# Altium footprint library 轻触按键.PcbLib: 22 footprints (part 2 of 2)
Each footprint in its own frame and in the unit in brackets; x right, y up, seen from the top. Pads: shape width x height; smd on the part's side, far side on the other; paste and mask are expansions set on the pad; w line width, h text height; cw(c..) or ccw(c..) is an arc to the next point about the centre after c.
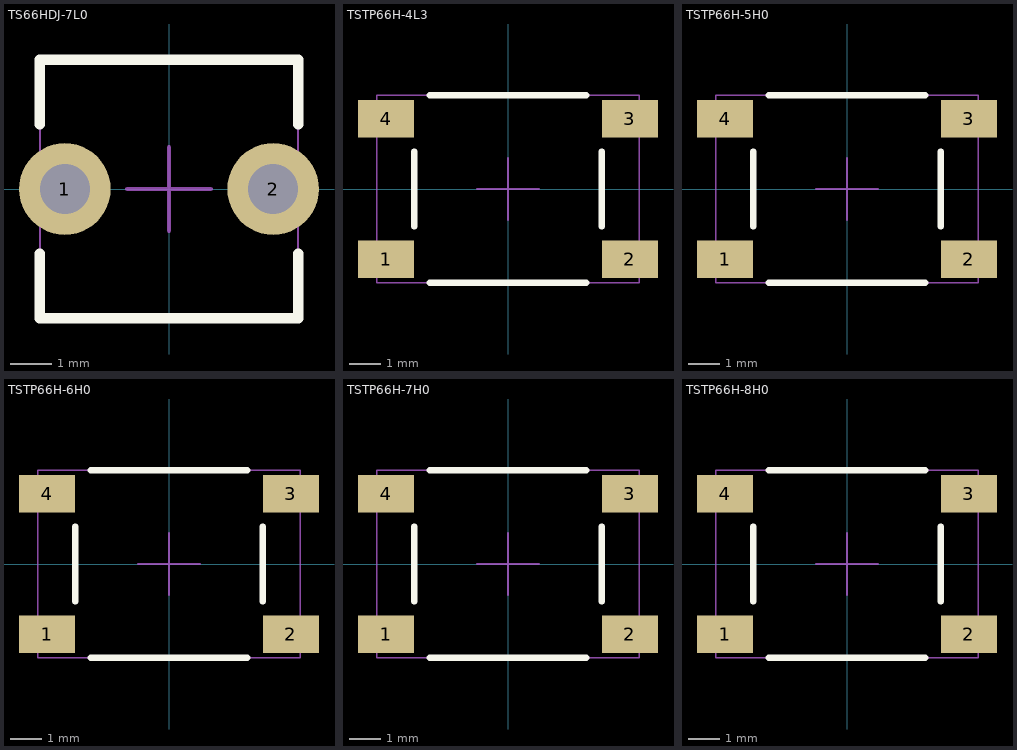
[diagram p1: the footprints below, top view; thin cyan lines are the x and y axes]

## TS66HDJ-7L0 [mm] "6*6短两脚轻触按键"
height 7
pads (2):
  round 2.2 hole 1.2 unplated: 1(-2.5,0) 2(2.5,0)
Top Overlay:
  lines w0.25: -3.1,-1.55 -3.1,-3.1 3.1,-3.1 3.1,-1.55 ; -3.1,1.55 -3.1,3.1 3.1,3.1 3.1,1.55
Mechanical 13:
  lines w0.05: -3.1,-3.1 -3.1,3.1 3.1,3.1 3.1,-3.1 -3.1,-3.1
Mechanical 15:
  lines w0.1: -1,0 1,0 ; 0,-1 0,1
3D body: height 7, standoff -3.7, extent -3.1,-3.1 3.1,3.1

## TSTP66H-4L3 [mm] "贴片6x6轻触按键"
height 4.3
pads (4):
  rect 1.8x1.2 smd: 1(-3.9,-2.25) 2(3.9,-2.25) 3(3.9,2.25) 4(-3.9,2.25)
Top Overlay:
  lines w0.2: -3,-1.2 -3,1.2 ; -2.5,-3 2.5,-3 ; -2.5,3 2.5,3 ; 3,-1.2 3,1.2
Mechanical 13:
  lines w0.05: -4.2,-3 -4.2,3 4.2,3 4.2,-3 -4.2,-3
Mechanical 15:
  lines w0.05: -1,0 1,0 ; 0,-1 0,1
3D body: height 4.5, standoff 0.1, extent -4.2,-3.005 4.2,3

## TSTP66H-5H0 [mm] "贴片6x6轻触按键"
height 5
pads (4):
  rect 1.8x1.2 smd: 1(-3.9,-2.25) 2(3.9,-2.25) 3(3.9,2.25) 4(-3.9,2.25)
Top Overlay:
  lines w0.2: -3,-1.2 -3,1.2 ; -2.5,-3 2.5,-3 ; -2.5,3 2.5,3 ; 3,-1.2 3,1.2
Mechanical 13:
  lines w0.05: -4.2,-3 -4.2,3 4.2,3 4.2,-3 -4.2,-3
Mechanical 15:
  lines w0.05: -1,0 1,0 ; 0,-1 0,1
3D body: height 4.5, standoff 0.1, extent -4.2,-3 4.2,3

## TSTP66H-6H0 [mm] "贴片6x6轻触按键"
height 6
pads (4):
  rect 1.8x1.2 smd: 1(-3.9,-2.25) 2(3.9,-2.25) 3(3.9,2.25) 4(-3.9,2.25)
Top Overlay:
  lines w0.2: -3,-1.2 -3,1.2 ; -2.5,-3 2.5,-3 ; -2.5,3 2.5,3 ; 3,-1.2 3,1.2
Mechanical 13:
  lines w0.05: -4.2,-3 -4.2,3 4.2,3 4.2,-3 -4.2,-3
Mechanical 15:
  lines w0.05: -1,0 1,0 ; 0,-1 0,1
3D body: height 5.5, standoff 0.1, extent -4.2,-3 4.2,3

## TSTP66H-7H0 [mm] "贴片6x6轻触按键"
height 7
pads (4):
  rect 1.8x1.2 smd: 1(-3.9,-2.25) 2(3.9,-2.25) 3(3.9,2.25) 4(-3.9,2.25)
Top Overlay:
  lines w0.2: -3,-1.2 -3,1.2 ; -2.5,-3 2.5,-3 ; -2.5,3 2.5,3 ; 3,-1.2 3,1.2
Mechanical 13:
  lines w0.05: -4.2,-3 4.2,-3 4.2,3 -4.2,3 -4.2,-3
Mechanical 15:
  lines w0.05: -1,0 1,0 ; 0,-1 0,1
3D body: height 6.5, standoff 0.1, extent -4.2,-3 4.2,3

## TSTP66H-8H0 [mm] "贴片6x6轻触按键"
height 8
pads (4):
  rect 1.8x1.2 smd: 1(-3.9,-2.25) 2(3.9,-2.25) 3(3.9,2.25) 4(-3.9,2.25)
Top Overlay:
  lines w0.2: -3,-1.2 -3,1.2 ; -2.5,-3 2.5,-3 ; -2.5,3 2.5,3 ; 3,-1.2 3,1.2
Mechanical 13:
  lines w0.05: -4.2,-3 4.2,-3 4.2,3 -4.2,3 -4.2,-3
Mechanical 15:
  lines w0.05: -1,0 1,0 ; 0,-1 0,1
3D body: height 7.5, standoff 0.1, extent -4.2,-3 4.2,3